# Altium schematic symbol library k7sch4.SchLib: 5 symbols
Pins are listed as number, name and electrical type; pins without a type are passive.

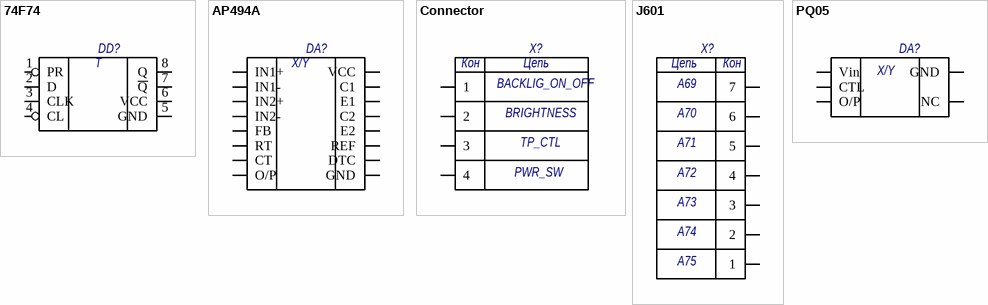
[diagram p0: symbols 74F74 to PQ05]

## 74F74
designator DD?  (value not drawn)
footprint D FF
footprint D FF 2
pins: 1 PR, 2 D, 3 CLK, 4 CL, 5 GND, 6 VCC, 7 ~{Q}, 8 Q
text: T

## AP494A
designator DA?  (value not drawn)
footprint AP494A_1
footprint AP494A
pins: 1 IN1+, 2 IN1-, 3 IN2+, 4 IN2-, 5 FB, 6 RT, 7 CT, 8 O/P, 9 GND, 10 DTC, 11 REF, 12 E2, 13 C2, 14 E1, 15 C1, 16 VCC
text: X/Y

## Connector
designator X?  (value not drawn)
footprint Connector
pins: 1, 2, 3, 4
text: Кон; Цепь; BACKLIG_ON_OFF; BRIGHTNESS; TP_CTL; PWR_SW

## J601
designator X?  (value not drawn)
footprint J601
pins: 1, 2, 3, 4, 5, 6, 7
text: Цепь; Кон; A69; A70; A71; A72; A73; A74; A75

## PQ05
designator DA?  (value not drawn)
footprint PQ05
pins: 1 Vin, 2 CTL, 3 O/P, 4 NC, 5 GND
text: X/Y